# EAGLE library part MC1488DG (library On Semiconductor)
Quad Line EIA-232D Driver
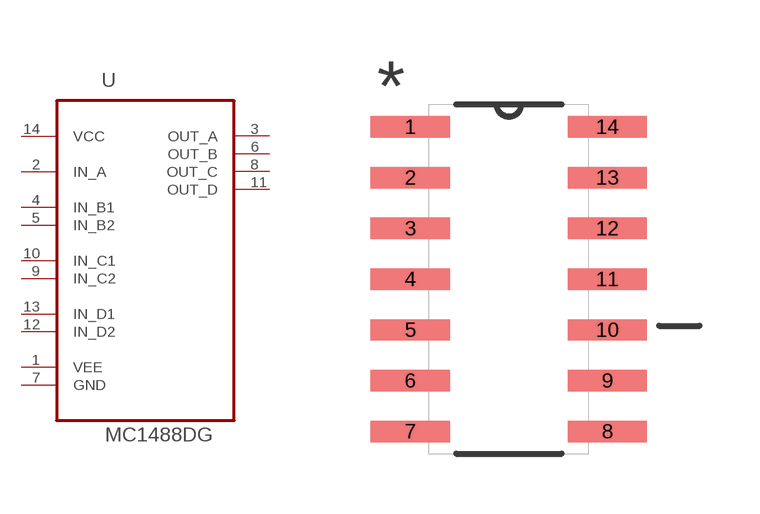
[diagram p310: symbol with the pads of SOIC127P600X175-14N; footprint SOIC127P600X175-14N]

Designator prefix U

## MC1488DG (MPN: MC1488DG; OC_FARNELL: 1147618; OC_NEWARK: 26K3980; PACKAGE: SOIC-14; SUPPLIER: ON SEMICONDUCTOR)  [SOIC127P600X175-14N]
1  VEE  pwr
2  IN_A  in
3  OUT_A  out
4  IN_B1  in
5  IN_B2  in
6  OUT_B  out
7  GND  pas
8  OUT_C  out
9  IN_C2  in
10  IN_C1  in
11  OUT_D  out
12  IN_D2  in
13  IN_D1  in
14  VCC  pwr

## Footprint SOIC127P600X175-14N (pad centres in mm)
smd 1.981 x 0.533: 1 -2.464,3.81; 2 -2.464,2.54; 3 -2.464,1.27; 4 -2.464,0; 5 -2.464,-1.27; 6 -2.464,-2.54; 7 -2.464,-3.81; 8 2.464,-3.81; 9 2.464,-2.54; 10 2.464,-1.27; 11 2.464,0; 12 2.464,1.27; 13 2.464,2.54; 14 2.464,3.81